# Altium footprint library CUBIC_PCB.PcbLib: 31 footprints (part 1 of 2)
Each footprint in its own frame and in the unit in brackets; x right, y up, seen from the top. Pads: shape width x height; smd on the part's side, far side on the other; paste and mask are expansions set on the pad; w line width, h text height; cw(c..) or ccw(c..) is an arc to the next point about the centre after c.
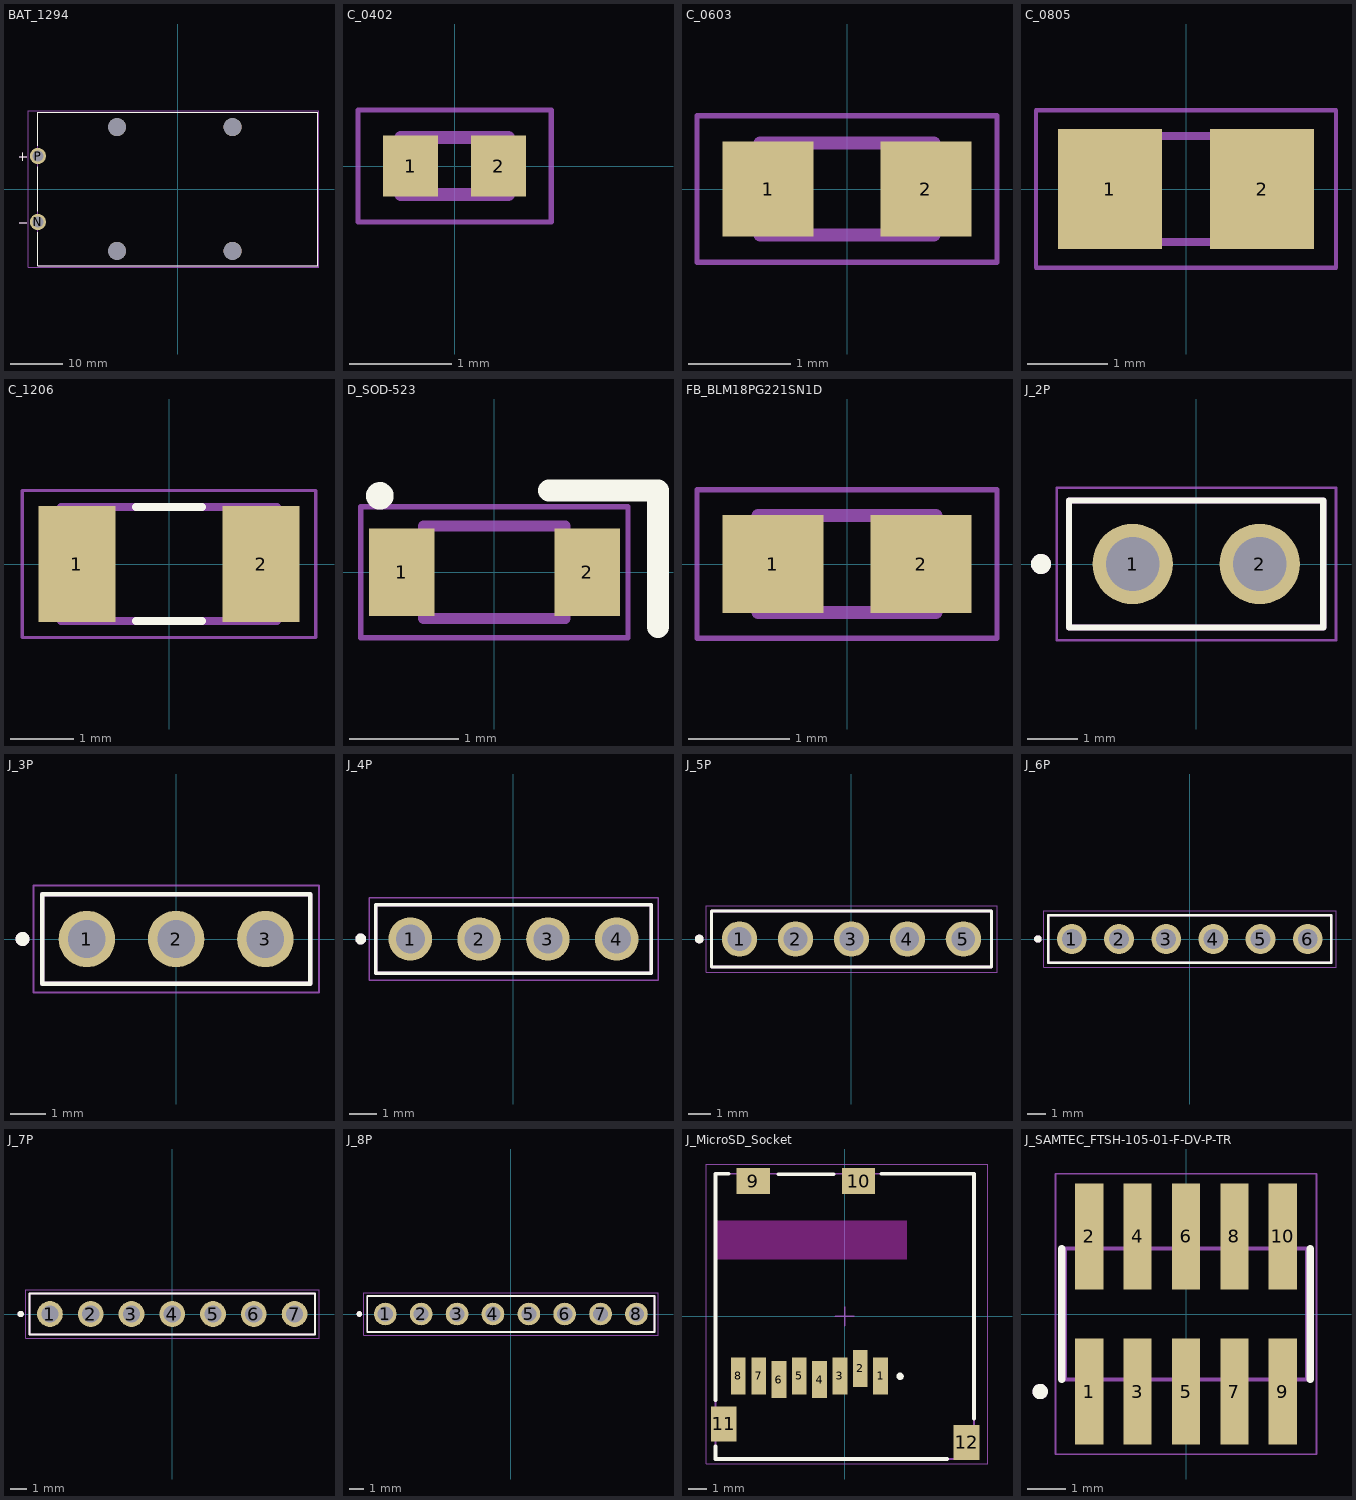
[diagram p0: the footprints below, top view; thin cyan lines are the x and y axes]

## BAT_1294 [mm]
height 20.32
pads (6):
  round 3.126 hole 2.11: N(-26.925,-6.35) P(-26.925,6.35)
  round 3.45 hole 3.45 unplated: ""(-11.685,-11.915) ""(-11.685,11.915) ""(10.545,-11.915) ""(10.545,11.915)
Top Overlay:
  lines w0.127: -30.56,-6.52 -29.06,-6.52 ; -30.56,6.23 -29.06,6.23 ; -29.81,5.48 -29.81,6.98 ; -26.925,-8.35 -26.925,-14.785 26.925,-14.785 26.925,14.785 -26.925,14.785 -26.925,8.35 ; -26.925,-4.3 -26.925,4.3
Mechanical 13:
  lines w0.127: -30.56,-6.52 -29.06,-6.52 ; -30.56,6.23 -29.06,6.23 ; -29.81,5.48 -29.81,6.98 ; -26.925,-14.785 -26.925,14.785 26.925,14.785 26.925,-14.785 -26.925,-14.785
Mechanical 15:
  lines w0.05: -28.82,-15.035 27.175,-15.035 27.175,15.035 -28.82,15.035 -28.82,-15.035
3D body "step_temp.STEP": height 20.32, standoff -7.62, extent -27.229,-14.783 26.924,14.783

## C_0402 [mm]
pads (2):
  rect 0.54x0.6 smd: 1(-0.432,0) 2(0.432,0)
Top Overlay:
Mechanical 13:
  lines w0.127: -0.53,-0.28 -0.53,0.28 0.53,0.28 0.53,-0.28 -0.53,-0.28
Mechanical 15:
  lines w0.05: -0.95,-0.55 -0.95,0.55 0.95,0.55 0.95,-0.55 -0.95,-0.55
3D body "step_temp.STEP": height 0.55, standoff 0, extent -0.5,-0.25 0.5,0.25

## C_0603 [mm]
pads (2):
  rect 0.89x0.93 smd: 1(-0.77,0) 2(0.77,0)
Mechanical 13:
  lines w0.127: -0.85,-0.45 -0.85,0.45 0.85,0.45 0.85,-0.45 -0.85,-0.45
Mechanical 15:
  lines w0.05: -1.465,-0.715 -1.465,0.715 1.465,0.715 1.465,-0.715 -1.465,-0.715
3D body "GCM188R71H102KA37D.step": height 0.9, standoff 0, extent -0.8,-0.4 0.8,0.4

## C_0805 [mm]
pads (2):
  rect 1.3x1.5 smd: 1(-0.95,0) 2(0.95,0)
Mechanical 13:
  region: -0.342,-0.724 -1.092,-0.724 -1.092,0.726 -0.342,0.726
  region: 1.106,-0.724 0.356,-0.724 0.356,0.726 1.106,0.726
  lines w0.102: -0.381,0.66 0.381,0.66 ; -0.356,-0.66 0.381,-0.66
Mechanical 15:
  lines w0.051: -1.873,-0.983 1.873,-0.983 1.873,0.983 -1.873,0.983 -1.873,-0.983
3D body "GCM21BR71H104KA37K.step": height 1.43, standoff -0.02, extent -1,-0.625 1,0.625

## C_1206 [mm]
pads (2):
  rect 1.21x1.82 smd: 1(-1.45,0) 2(1.45,0)
Top Overlay:
  lines w0.127: -0.52,-0.9 0.52,-0.9 ; -0.52,0.9 0.52,0.9
Mechanical 13:
  lines w0.127: -1.7,-0.9 -1.7,0.9 1.7,0.9 1.7,-0.9 -1.7,-0.9
Mechanical 15:
  lines w0.05: -2.308,-1.158 -2.308,1.158 2.308,1.158 2.308,-1.158 -2.308,-1.158
3D body "step_temp.STEP": height 1.8, standoff 0, extent -1.6,-0.8 1.6,0.8

## D_SOD-523 [mm] "SODFL, 2-Leads, Body 0.80x1.60mm, IPC Medium Density"
height 0.65
pads (2):
  rect 0.6x0.8 smd: 1(-0.85,0) 2(0.85,0)
Top Overlay:
  circle w0.152: c-1.05,0.7 r0.05
  lines w0.203: 0.5,0.75 1.5,0.75 1.5,-0.5
Mechanical 13:
  lines w0.1: -0.65,-0.425 0.65,-0.425 0.65,0.425 -0.65,0.425 -0.65,-0.425
Mechanical 15:
  lines w0.05: -1.225,-0.6 1.225,-0.6 1.225,0.6 -1.225,0.6 -1.225,-0.6
3D body "D_SOD-523.step": height 0.65, standoff 0, extent -0.8,-0.425 0.8,0.425

## FB_BLM18PG221SN1D [mm]
pads (2):
  rect 1x0.97 smd: 1(-0.735,0) 2(0.735,0)
Mechanical 13:
  lines w0.127: -0.88,-0.48 -0.88,0.48 0.88,0.48 0.88,-0.48 -0.88,-0.48
Mechanical 15:
  lines w0.05: -1.485,-0.735 -1.485,0.735 1.485,0.735 1.485,-0.735 -1.485,-0.735
3D body "BLM18PG221SN1D.step": height 0.95, standoff 0, extent -0.8,-0.4 0.8,0.4

## J_2P [mm] "2-pin Dupont header"
height 9.64
pads (2):
  round 1.605 hole 1.07: 1(-1.27,0) 2(1.27,0)
Top Overlay:
  circle w0.2: c-3.1,0 r0.1
  lines w0.127: -2.54,-1.27 -2.54,1.27 2.54,1.27 2.54,-1.27 -2.54,-1.27
Mechanical 13:
  circle w0.2: c-3.1,0 r0.1
  lines w0.127: -2.54,-1.27 -2.54,1.27 2.54,1.27 2.54,-1.27 -2.54,-1.27
Mechanical 15:
  lines w0.05: -2.79,-1.52 -2.79,1.52 2.794,1.52 2.794,-1.52 -2.79,-1.52

## J_3P [mm] "3-pin Dupont header"
height 9.64
pads (3):
  round 1.605 hole 1.07: 1(-2.54,0) 2(0,0) 3(2.54,0)
Top Overlay:
  circle w0.2: c-4.37,0 r0.1
  lines w0.127: -3.81,-1.27 3.81,-1.27 3.81,1.27 -3.81,1.27 -3.81,-1.27
Mechanical 13:
  circle w0.2: c-4.37,0 r0.1
  lines w0.127: -3.81,-1.27 3.81,-1.27 3.81,1.27 -3.81,1.27 -3.81,-1.27
Mechanical 15:
  lines w0.05: -4.06,-1.52 4.064,-1.52 4.064,1.52 -4.06,1.52 -4.06,-1.52

## J_4P [mm] "4-pin Dupont header"
height 9.64
pads (4):
  round 1.605 hole 1.07: 1(-3.81,0) 2(-1.27,0) 3(1.27,0) 4(3.81,0)
Top Overlay:
  circle w0.2: c-5.64,0 r0.1
  lines w0.127: -5.08,-1.27 -5.08,1.27 5.08,1.27 5.08,-1.27 -5.08,-1.27
Mechanical 13:
  circle w0.2: c-5.64,0 r0.1
  lines w0.127: -5.08,-1.27 -5.08,1.27 5.08,1.27 5.08,-1.27 -5.08,-1.27
Mechanical 15:
  lines w0.05: -5.33,-1.52 -5.33,1.52 5.334,1.52 5.334,-1.52 -5.33,-1.52

## J_5P [mm] "5-pin Dupont header"
height 9.64
pads (5):
  round 1.605 hole 1.07: 1(-5.08,0) 2(-2.54,0) 3(0,0) 4(2.54,0) 5(5.08,0)
Top Overlay:
  circle w0.2: c-6.91,0 r0.1
  lines w0.127: -6.35,-1.27 6.35,-1.27 6.35,1.27 -6.35,1.27 -6.35,-1.27
Mechanical 13:
  circle w0.2: c-6.91,0 r0.1
  lines w0.127: -6.35,-1.27 6.35,-1.27 6.35,1.27 -6.35,1.27 -6.35,-1.27
Mechanical 15:
  lines w0.05: -6.6,-1.52 6.604,-1.52 6.604,1.52 -6.6,1.52 -6.6,-1.52

## J_6P [mm] "6-pin Dupont header"
height 9.64
pads (6):
  round 1.605 hole 1.07: 1(-6.35,0) 2(-3.81,0) 3(-1.27,0) 4(1.27,0) 5(3.81,0) 6(6.35,0)
Top Overlay:
  circle w0.2: c-8.18,0 r0.1
  lines w0.127: -7.62,-1.27 -7.62,1.27 7.62,1.27 7.62,-1.27 -7.62,-1.27
Mechanical 13:
  circle w0.2: c-8.18,0 r0.1
  lines w0.127: -7.62,-1.27 -7.62,1.27 7.62,1.27 7.62,-1.27 -7.62,-1.27
Mechanical 15:
  lines w0.05: -7.87,-1.52 -7.87,1.52 7.874,1.52 7.874,-1.52 -7.87,-1.52

## J_7P [mm] "7-pin Dupont header"
height 9.64
pads (7):
  round 1.605 hole 1.07: 1(-7.62,0) 2(-5.08,0) 3(-2.54,0) 4(0,0) 5(2.54,0) 6(5.08,0) 7(7.62,0)
Top Overlay:
  circle w0.2: c-9.45,0 r0.1
  lines w0.127: -8.89,-1.27 8.89,-1.27 8.89,1.27 -8.89,1.27 -8.89,-1.27
Mechanical 13:
  circle w0.2: c-9.45,0 r0.1
  lines w0.127: -8.89,-1.27 8.89,-1.27 8.89,1.27 -8.89,1.27 -8.89,-1.27
Mechanical 15:
  lines w0.05: -9.14,-1.52 9.144,-1.52 9.144,1.52 -9.14,1.52 -9.14,-1.52

## J_8P [mm] "8-pin Dupont header"
height 9.64
pads (8):
  round 1.605 hole 1.07: 1(-8.89,0) 2(-6.35,0) 3(-3.81,0) 4(-1.27,0) 5(1.27,0) 6(3.81,0) 7(6.35,0) 8(8.89,0)
Top Overlay:
  circle w0.2: c-10.72,0 r0.1
  lines w0.127: -10.16,-1.27 -10.16,1.27 10.16,1.27 10.16,-1.27 -10.16,-1.27
Mechanical 13:
  circle w0.2: c-10.72,0 r0.1
  lines w0.127: -10.16,-1.27 -10.16,1.27 10.16,1.27 10.16,-1.27 -10.16,-1.27
Mechanical 15:
  lines w0.05: -10.41,-1.52 -10.41,1.52 10.414,1.52 10.414,-1.52 -10.41,-1.52

## J_MicroSD_Socket [mm] "GCT_MEM2061-01-188-00-A_REVA, microSD card socket, push/push"
pads (12):
  rect 0.8x2 smd: 1(1.94,-3.225) 2(0.84,-2.825) 3(-0.26,-3.225) 4(-1.36,-3.425) 5(-2.46,-3.225) 6(-3.56,-3.425) 7(-4.66,-3.225) 8(-5.76,-3.225)
  rect 1.8x1.4 smd: 9(-4.95,7.325) 10(0.75,7.325)
  rect 1.4x1.9 smd: 11(-6.55,-5.825) 12(6.6,-6.825)
Top Overlay:
  circle w0.2: c3,-3.25 r0.1
  lines w0.2: -7,-7.05 -7,-7.725 5.55,-7.725 ; -7,-4.55 -7,7.725 -6.274,7.725 ; -3.6,7.7 -0.6,7.7 ; 1.981,7.725 7,7.725 7,-5.55
Keep-Out Layer:
  region: 3.37,3.1 -7.011,3.1 -7.011,5.175 3.37,5.175
Mechanical 13:
  lines w0.1: -0.5,0 0.5,0 ; 0,-0.5 0,0.5 ; -7,-7.725 7,-7.725 7,7.725 -7,7.725 -7,-7.725
Mechanical 15:
  lines w0.05: -7.5,-8 7.75,-8 7.75,8.25 -7.5,8.25 -7.5,-8
3D body "MEM2061-01-188-00-A_REVA.step": height 1.88, standoff 0, extent -7.1,-7.725 7.1,7.725

## J_SAMTEC_FTSH-105-01-F-DV-P-TR [mm]
pads (10):
  rect 0.74x2.79 smd: 1(-2.54,-2.035) 2(-2.54,2.035) 3(-1.27,-2.035) 4(-1.27,2.035) 5(0,-2.035) 6(0,2.035) 7(1.27,-2.035) 8(1.27,2.035) 9(2.54,-2.035) 10(2.54,2.035)
Top Overlay:
  circle w0.2: c-3.825,-2.035 r0.1
  lines w0.2: -3.26,-1.715 -3.26,1.715 ; 3.26,-1.715 3.26,1.715
Mechanical 13:
  circle w0.2: c-3.825,-2.035 r0.1
  lines w0.1: -3.175,-1.715 -3.175,1.715 ; -3.175,-1.715 3.175,-1.715 ; -3.175,-1.715 -3.175,1.715 ; -3.175,1.715 3.175,1.715 ; -3.175,1.715 3.175,1.715 ; 3.175,-1.715 3.175,1.715 ; 3.175,-1.715 3.175,1.715
Mechanical 15:
  lines w0.05: -3.425,-3.68 -3.425,3.68 3.425,3.68 3.425,-3.68 -3.425,-3.68
3D body "FTSH-105-01-F-DV-K-TR.step": height 6.11, standoff -0.01, extent -3.175,-2.921 3.175,2.921